# EAGLE library part MICROSD (library gate433)
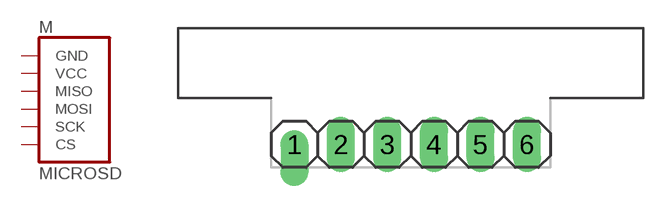
[diagram p3: symbol with the pads of MICROSD; footprint MICROSD]

Designator prefix M

## MICROSD  [MICROSD]
1  GND  pas
2  VCC  pas
3  MISO  pas
4  MOSI  pas
5  SCK  pas
6  CS  pas

## Footprint MICROSD (pad centres in mm)
drill 1.016 offset: 1 -6.35,0
drill 1.016 long: 2 -3.81,0; 3 -1.27,0; 4 1.27,0; 5 3.81,0; 6 6.35,0